# Altium footprint library PCB - DIODES - SOD323.PCBLIB: 1 footprints
Each footprint in its own frame and in the unit in brackets; x right, y up, seen from the top. Pads: shape width x height; smd on the part's side, far side on the other; paste and mask are expansions set on the pad; w line width, h text height; cw(c..) or ccw(c..) is an arc to the next point about the centre after c.
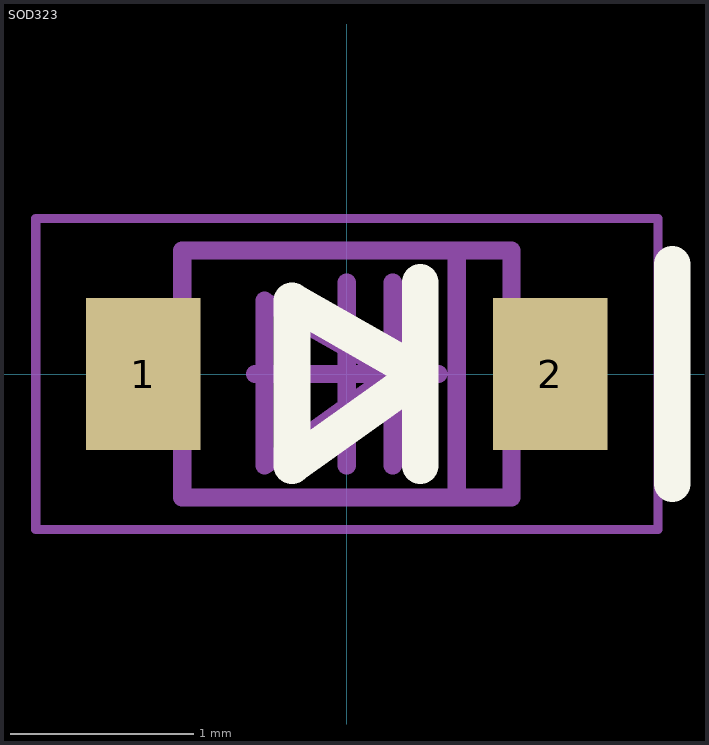
[diagram p0: the footprint, top view; thin cyan lines are the x and y axes]

## SOD323 [mm] "SOD, 2-Leads, Body 1.25x2.50mm, IPC Medium Density"
height 0.8
pads (2):
  rect 0.625x0.83 smd: 1(-1.112,0) 2(1.112,0)
Top Overlay:
  lines w0.2: 0.4,-0.5 0.4,0.5 ; 1.778,-0.6 1.778,0.6 ; -0.3,-0.5 -0.3,0.4 0.4,0 -0.3,-0.5
Top Component Center:
  lines w0.1: -0.5,0 0.5,0 ; 0,-0.5 0,0.5
Top Assembly:
  lines w0.1: 0.25,-0.5 0.25,0.5 ; 0.6,-0.664 0.6,0.666 ; -0.9,-0.675 0.9,-0.675 0.9,0.675 -0.9,0.675 -0.9,-0.675 ; -0.45,-0.5 -0.45,0.4 0.25,0 -0.45,-0.5
  text ".Designator" at -2.25,-1.426 h1
Top Courtyard:
  lines w0.05: -1.7,-0.85 1.7,-0.85 1.7,0.85 -1.7,0.85 -1.7,-0.85
3D body "SOD-323.step": height 1.05, standoff 0, extent -1.36,-0.625 1.361,0.625